# Altium schematic symbol library Memory.SchLib: 1 symbol
Pins are listed as number, name and electrical type; pins without a type are passive.

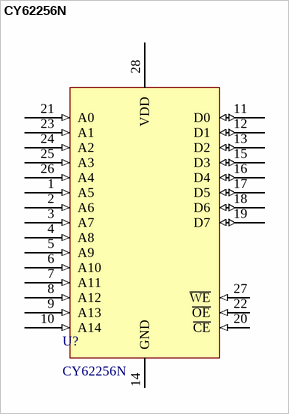
[diagram p0: symbol CY62256N]

## CY62256N
designator U?
256-Kbit (32 K × 8) Static RAM
footprint PDIP28
footprint SOIC28
pins: 1 A5 (in), 2 A6 (in), 3 A7 (in), 4 A8 (in), 5 A9 (in), 6 A10 (in), 7 A11 (in), 8 A12 (in), 9 A13 (in), 10 A14 (in), 11 D0 (io), 12 D1 (io), 13 D2 (io), 14 GND (power), 15 D3 (io), 16 D4 (io), 17 D5 (io), 18 D6 (io), 19 D7 (io), 20 ~{CE} (in), 21 A0 (in), 22 ~{OE} (in), 23 A1 (in), 24 A2 (in), 25 A3 (in), 26 A4 (in), 27 ~{WE} (in), 28 VDD (power)